# Altium footprint library PCB - CONNECTOR - JST - JST XH S3B-XH-SM4-TB.PCBLIB: 1 footprints
Each footprint in its own frame and in the unit in brackets; x right, y up, seen from the top. Pads: shape width x height; smd on the part's side, far side on the other; paste and mask are expansions set on the pad; w line width, h text height; cw(c..) or ccw(c..) is an arc to the next point about the centre after c.
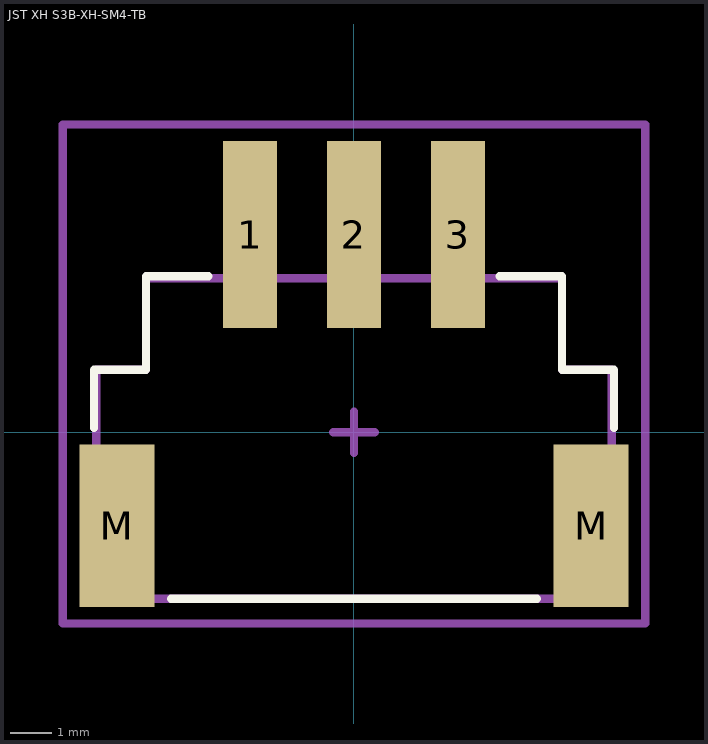
[diagram p0: the footprint, top view; thin cyan lines are the x and y axes]

## JST XH S3B-XH-SM4-TB [mm] "CONN HEADER SMD R/A 3POS 2.5MM"
height 6
pads (5):
  rect 1.3x4.5 smd: 1(-2.5,4.75) 2(0,4.75) 3(2.5,4.75)
  rect 1.8x3.9 smd: M(-5.7,-2.25) M(5.7,-2.25)
Top Overlay:
  lines w0.2: -6.25,0.1 -6.25,1.5 -5,1.5 -5,3.75 -3.5,3.75 ; -4.4,-4 4.4,-4 ; 3.5,3.75 5,3.75 5,1.5 6.25,1.5 6.25,0.1
Mechanical 13:
  lines w0.2: -6.2,-4 -6.2,1.5 -5,1.5 -5,3.7 5,3.7 5,1.5 6.2,1.5 6.2,-4 -6.2,-4
Mechanical 15:
  lines w0.2: -0.5,0 0.5,0 ; 0,-0.5 0,0.5 ; -7,-4.6 -7,7.4 7,7.4 7,-4.6 -7,-4.6
3D body "JST - S3B-XH-SM4-TB.step": height 6, standoff 0, extent -6.225,-4 6.225,6